# EAGLE library part IN-12_6DIGIT (library iStivi - Tubes)
IN-12 DIGITS 0-6 IN-12 pin layout with only the pins 0-5 connected. For clock display.
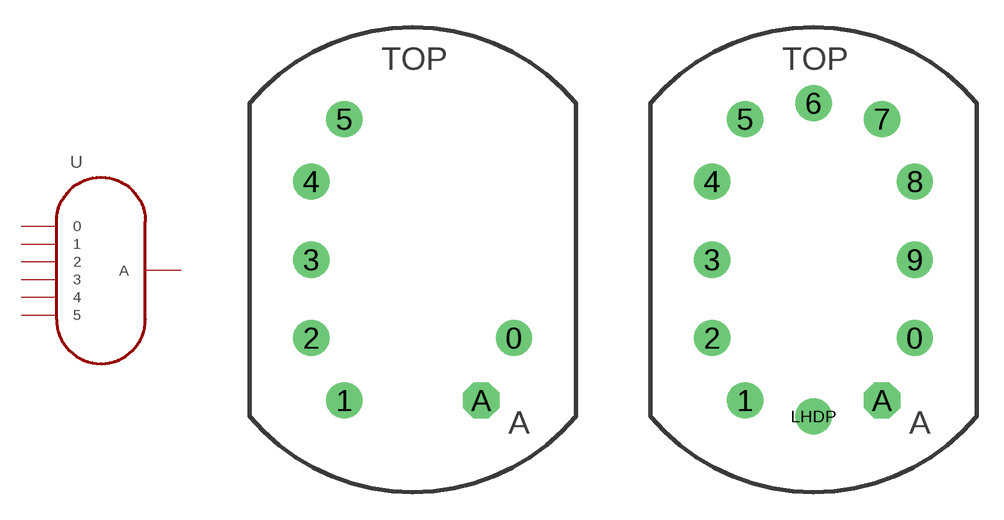
[diagram p4: symbol with the pads of IN-12_6DIGIT; footprints IN-12_6DIGIT, IN-12]

Designator prefix -

## IN-12_6DIGIT  [IN-12_6DIGIT]
0  0
1  1
2  2
3  3
4  4
5  5
A  A

## IN-12_6DIGITFULL  [IN-12]
Pads as for IN-12_6DIGIT

## Footprint IN-12_6DIGIT (pad centres in mm)
IN-12 pin layout with only digits 0-5 connected for clock digit
drill 0.7 pad 2: 0 5.59,-4.32; 1 -3.78,-7.766; 2 -5.59,-4.32; 3 -5.59,0; 4 -5.59,4.32; 5 -3.78,7.766
drill 0.7 pad 2 octagon: A 3.78,-7.766

## Footprint IN-12 (pad centres in mm)
May be used with socket: SK-136
drill 0.9 pad 2: 0 5.59,-4.32; 1 -3.78,-7.766; 2 -5.59,-4.32; 3 -5.59,0; 4 -5.59,4.32; 5 -3.78,7.766; 6 0,8.64; 7 3.78,7.766; 8 5.59,4.32; 9 5.59,0; LHDP 0,-8.64
drill 0.9 pad 2 octagon: A 3.78,-7.766